# Altium footprint library cocube_maix.PcbLib: 23 footprints (part 2 of 2)
Each footprint in its own frame and in the unit in brackets; x right, y up, seen from the top. Pads: shape width x height; smd on the part's side, far side on the other; paste and mask are expansions set on the pad; w line width, h text height; cw(c..) or ccw(c..) is an arc to the next point about the centre after c.
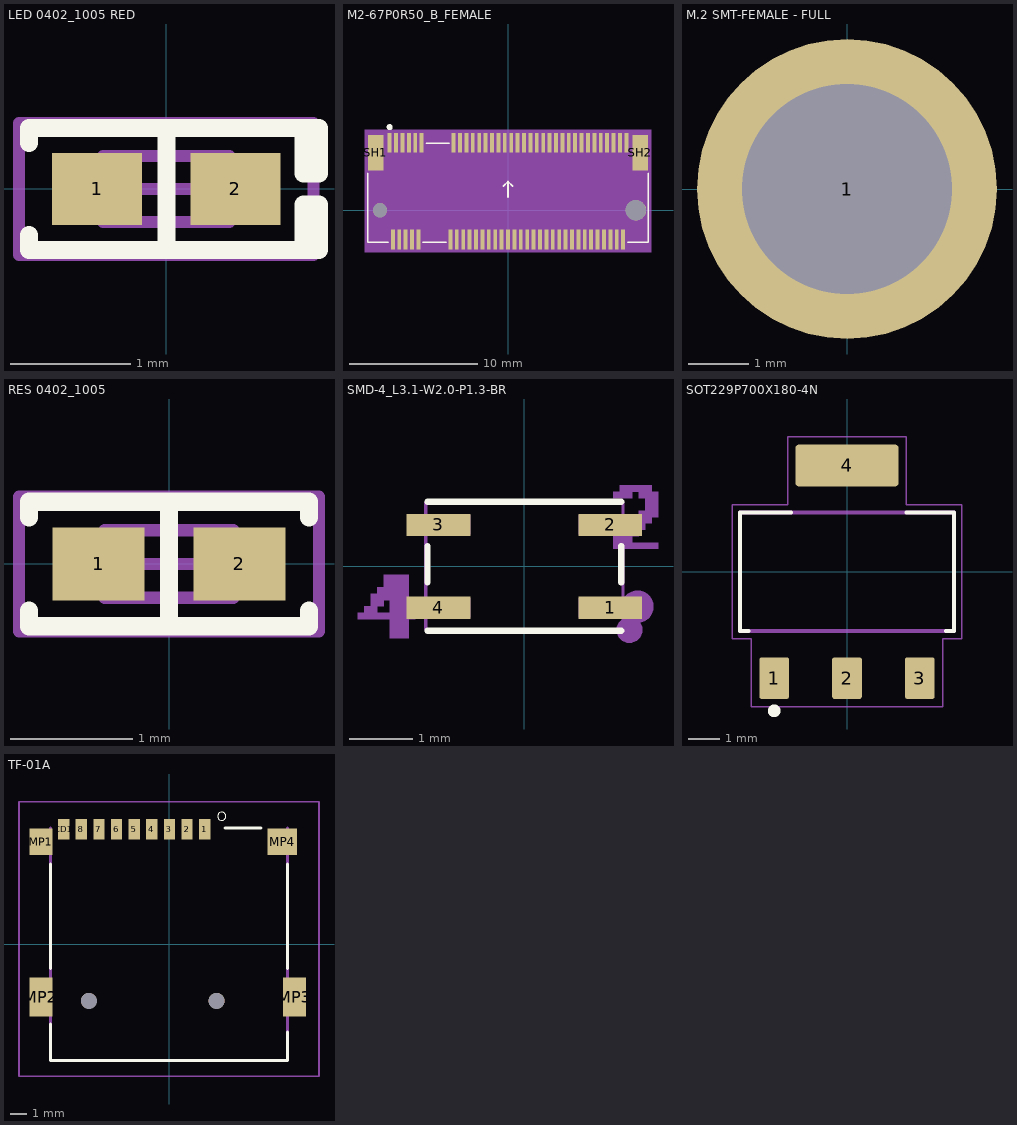
[diagram p1: the footprints below, top view; thin cyan lines are the x and y axes]

## LED 0402_1005 RED [mm]
pads (2):
  rect 0.75x0.6 smd: 1(-0.575,0) 2(0.575,0)
Top Overlay:
  lines w0.15: -1.143,-0.381 -1.143,-0.508 1.143,-0.508 ; -1.143,0.381 -1.143,0.508 1.143,0.508 ; 0,-0.508 0,0.508 ; 1.143,-0.508 1.143,-0.127 1.27,-0.127 1.27,-0.508 1.143,-0.508 ; 1.143,0.508 1.143,0.127 1.27,0.127 1.27,0.508 1.143,0.508
Top 3D Body (Mech13):
  lines w0.1: -0.525,-0.275 0.525,-0.275 0.525,0.275 -0.525,0.275 -0.525,-0.275
Mechanical 15:
  lines w0.1: -0.275,0 0.275,0 ; 0,-0.275 0,0.275 ; -1.225,-0.55 1.225,-0.55 1.225,0.55 -1.225,0.55 -1.225,-0.55
3D body "LED 0402 Base RED.STEP": height 0.1, standoff 0, extent -0.5,-0.25 0.5,0.25
3D body "LED 0402 Lens RED.STEP": height 0.21, standoff 0.08, extent -0.35,-0.25 0.35,0.25

## M2-67P0R50_B_FEMALE [mm]
pads (71):
  rect 0.3x1.55 smd mask+0.051: 1(-9.25,5.275) 2(-9,-2.275) 3(-8.75,5.275) 4(-8.5,-2.275) 5(-8.25,5.275) 6(-8,-2.275) 7(-7.75,5.275) 8(-7.5,-2.275) 9(-7.25,5.275) 10(-7,-2.275) 11(-6.75,5.275) 20(-4.5,-2.275) 21(-4.25,5.275) 22(-4,-2.275) 23(-3.75,5.275) 24(-3.5,-2.275) 25(-3.25,5.275) 26(-3,-2.275) 27(-2.75,5.275) 28(-2.5,-2.275) 29(-2.25,5.275) 30(-2,-2.275) 31(-1.75,5.275) 32(-1.5,-2.275) 33(-1.25,5.275) 34(-1,-2.275) 35(-0.75,5.275) 36(-0.5,-2.275) 37(-0.25,5.275) 38(0,-2.275) 39(0.25,5.275) 40(0.5,-2.275) 41(0.75,5.275) 42(1,-2.275) 43(1.25,5.275) 44(1.5,-2.275) 45(1.75,5.275) 46(2,-2.275) 47(2.25,5.275) 48(2.5,-2.275) 49(2.75,5.275) 50(3,-2.275) 51(3.25,5.275) 52(3.5,-2.275) 53(3.75,5.275) 54(4,-2.275) 55(4.25,5.275) 56(4.5,-2.275) 57(4.75,5.275) 58(5,-2.275) 59(5.25,5.275) 60(5.5,-2.275) 61(5.75,5.275) 62(6,-2.275) 63(6.25,5.275) 64(6.5,-2.275) 65(6.75,5.275) 66(7,-2.275) 67(7.25,5.275) 68(7.5,-2.275) 69(7.75,5.275) 70(8,-2.275) 71(8.25,5.275) 72(8.5,-2.275) 73(8.75,5.275) 74(9,-2.275) 75(9.25,5.275)
  round 1.1 hole 1.1 mask+0.051: " "(-10,0)
  round 1.6 / inner round 1.524 / far side round 1.6 hole 1.6 mask+0.051: " "(10,0)
  rect 1.2x2.75 smd mask+0.051: SH1(-10.35,4.5) SH2(10.35,4.5)
Top Overlay:
  circle w0.24: c-9.25,6.5 r0.12
  lines w0.125: -0.375,1.875 0,2.25 ; 0,1 0,2.25 ; 0.375,1.875 0,2.25
  lines w0.127: -10.95,2.9 -10.95,-2.5 -9.35,-2.5 ; -6.65,-2.5 -4.85,-2.5 ; -6.4,5.25 -4.6,5.25 ; 9.35,-2.5 10.95,-2.5 10.95,2.9
  text ".Designator" at -2.032,1.651 h0.89
Mechanical 8:
  text "38" at 0.73,-1.462 h0.51
  text "36" at 0.23,-1.462 h0.51
  text "28" at -1.77,-1.462 h0.51
  text "22" at -3.27,-1.462 h0.51
  text "20" at -3.77,-1.462 h0.51
  text "40" at 1.23,-1.462 h0.51
  text "21" at -3.52,6.088 h0.51
  text "23" at -3.02,6.088 h0.51
  text "25" at -2.52,6.088 h0.51
  text "27" at -2.02,6.088 h0.51
  text "44" at 2.23,-1.462 h0.51
  text "26" at -2.27,-1.462 h0.51
  text "24" at -2.77,-1.462 h0.51
  text "46" at 2.73,-1.462 h0.51
  text "74" at 9.73,-1.462 h0.51
  text "72" at 9.23,-1.462 h0.51
  text "34" at -0.27,-1.462 h0.51
  text "32" at -0.77,-1.462 h0.51
  text "75" at 9.98,6.088 h0.51
  text "73" at 9.48,6.088 h0.51
  text "4" at -8.27,-1.869 h0.51
  text "1" at -9.02,5.681 h0.51
  text "3" at -8.52,5.681 h0.51
  text "2" at -8.77,-1.869 h0.51
  text "69" at 8.48,6.088 h0.51
  text "71" at 8.98,6.088 h0.51
  text "56" at 5.23,-1.462 h0.51
  text "58" at 5.73,-1.462 h0.51
  text "70" at 8.73,-1.462 h0.51
  text "54" at 4.73,-1.462 h0.51
  text "48" at 3.23,-1.462 h0.51
  text "50" at 3.73,-1.462 h0.51
  text "62" at 6.73,-1.462 h0.51
  text "60" at 6.23,-1.462 h0.51
  text "66" at 7.73,-1.462 h0.51
  text "64" at 7.23,-1.462 h0.51
  text "52" at 4.23,-1.462 h0.51
  text "68" at 8.23,-1.462 h0.51
  text "53" at 4.48,6.088 h0.51
  text "55" at 4.98,6.088 h0.51
  text "59" at 5.98,6.088 h0.51
  text "57" at 5.48,6.088 h0.51
  text "63" at 6.98,6.088 h0.51
  text "61" at 6.48,6.088 h0.51
  text "65" at 7.48,6.088 h0.51
  text "67" at 7.98,6.088 h0.51
  text "41" at 1.48,6.088 h0.51
  text "43" at 1.98,6.088 h0.51
  text "45" at 2.48,6.088 h0.51
  text "47" at 2.98,6.088 h0.51
  text "29" at -1.52,6.088 h0.51
  text "42" at 1.73,-1.462 h0.51
  text "35" at -0.02,6.088 h0.51
  text "33" at -0.52,6.088 h0.51
  text "49" at 3.48,6.088 h0.51
  text "SH2" at 11.08,5.719 h0.51
  text "5" at -8.02,5.681 h0.51
  text "7" at -7.52,5.681 h0.51
  text "8" at -7.27,-1.869 h0.51
  text "6" at -7.77,-1.869 h0.51
  text "SH1" at -9.62,5.719 h0.51
  text "10" at -6.77,-1.462 h0.51
  text "30" at -1.27,-1.462 h0.51
  text "37" at 0.48,6.088 h0.51
  text "39" at 0.98,6.088 h0.51
  text "51" at 3.98,6.088 h0.51
  text "31" at -1.02,6.088 h0.51
  text "9" at -7.02,5.681 h0.51
  text "11" at -6.52,6.088 h0.51
Mechanical 9:
  drawing of 1702 lines, arcs and shapes, not listed
  text "NGFF-67P_B" at -1,0.75 h0.51
Mechanical 10:
  region: -11.2,6.3 -11.2,-3.3 11.2,-3.3 11.2,6.3
3D body "2377473_2199230-3.stp": height 4.09, standoff -0.61, extent -10.95,-2.85 10.95,5.85

## M.2 SMT-FEMALE - FULL [mm] "Connector; Plug"
pads (1):
  round 5 / inner round 4 / far side round 4 hole 3.5 paste+0 mask+0.051: 1(0,0)
3D body "M2-nut_smt.stp": height 2.46, standoff -1.04, extent -2.258,-2.239 2.242,2.261

## RES 0402_1005 [mm]
pads (2):
  rect 0.75x0.6 smd: 1(-0.575,0) 2(0.575,0)
Top Overlay:
  lines w0.15: -1.143,-0.381 -1.143,-0.508 1.143,-0.508 1.143,-0.381 ; -1.143,0.381 -1.143,0.508 1.143,0.508 1.143,0.381 ; 0,-0.508 0,0.508
Top 3D Body (Mech13):
  lines w0.1: -0.525,-0.275 -0.525,0.275 0.525,0.275 0.525,-0.275 -0.525,-0.275
Mechanical 15:
  lines w0.1: -0.275,0 0.275,0 ; 0,-0.275 0,0.275 ; -1.225,-0.55 -1.225,0.55 1.225,0.55 1.225,-0.55 -1.225,-0.55
3D body "0402 resistor.STEP": height 0.35, standoff 0, extent -0.5,-0.25 0.5,0.25

## SMD-4_L3.1-W2.0-P1.3-BR [mm]
pads (4):
  rect 1.001x0.351 smd mask+0.051: 1(1.351,-0.65) 2(1.351,0.65) 3(-1.351,0.65) 4(-1.351,-0.65)
Top Overlay:
  lines w0.099: -1.524,-1.016 1.524,-1.016 ; -1.524,-0.254 -1.524,0.32 ; -1.524,1.016 1.524,1.016 ; 1.524,-0.257 1.524,0.318
Mechanical 6:
  circle w0.254: c1.778,-0.635 r0.127
  region: -2.116,-1.13 -2.116,-1.029 -1.816,-1.029 -1.816,-1.13
  region: -2.116,-1.029 -2.116,-0.93 -1.816,-0.93 -1.816,-1.029
  region: -2.116,-0.93 -2.116,-0.831 -1.816,-0.831 -1.816,-0.93
  region: -2.616,-0.831 -2.616,-0.729 -1.714,-0.729 -1.714,-0.831
  region: -2.116,-0.729 -2.116,-0.63 -1.816,-0.63 -1.816,-0.729
  region: -2.515,-0.729 -2.515,-0.63 -2.314,-0.63 -2.314,-0.729
  region: -2.116,-0.63 -2.116,-0.531 -1.816,-0.531 -1.816,-0.63
  region: -2.416,-0.63 -2.416,-0.531 -2.215,-0.531 -2.215,-0.63
  region: -2.416,-0.531 -2.416,-0.429 -1.816,-0.429 -1.816,-0.531
  region: -2.314,-0.429 -2.314,-0.33 -1.816,-0.33 -1.816,-0.429
  region: -2.215,-0.33 -2.215,-0.229 -1.816,-0.229 -1.816,-0.33
  region: -2.215,-0.229 -2.215,-0.13 -1.816,-0.13 -1.816,-0.229
  region: 1.4,0.272 1.4,0.373 2.101,0.373 2.101,0.272
  region: 1.4,0.373 1.4,0.472 1.699,0.472 1.699,0.373
  region: 1.501,0.472 1.501,0.574 1.801,0.574 1.801,0.472
  region: 1.6,0.574 1.6,0.673 1.9,0.673 1.9,0.574
  region: 1.699,0.673 1.699,0.772 1.999,0.772 1.999,0.673
  region: 1.801,0.772 1.801,0.874 2.101,0.874 2.101,0.772
  region: 1.9,0.874 1.9,0.973 2.101,0.973 2.101,0.874
  region: 1.9,0.973 1.9,1.072 2.101,1.072 2.101,0.973
  region: 1.801,1.072 1.801,1.173 2.101,1.173 2.101,1.072
  region: 1.4,1.072 1.4,1.173 1.699,1.173 1.699,1.072
  region: 1.501,1.173 1.501,1.273 1.999,1.273 1.999,1.173
Mechanical 15:
  region: 1.852,-1.001 1.852,-0.961 1.821,-0.887 1.765,-0.831 1.691,-0.8 1.611,-0.8 1.537,-0.831 1.481,-0.887 1.45,-0.961 1.45,-1.001 1.45,-1.041 1.481,-1.114 1.537,-1.171 1.611,-1.201 1.691,-1.201 1.765,-1.171 1.821,-1.114 1.852,-1.041 1.852,-1.001
  region: 0.851,0.8 1.651,0.8 1.651,0.5 0.851,0.5
  region: 0.851,-0.5 1.651,-0.5 1.651,-0.8 0.851,-0.8
  region: -0.851,-0.8 -1.651,-0.8 -1.651,-0.5 -0.851,-0.5
  region: -0.851,0.5 -1.651,0.5 -1.651,0.8 -0.851,0.8
  lines w0.051: -1.549,-1.001 1.549,-1.001 1.549,1.001 -1.549,1.001 -1.549,-1.001

## SOT229P700X180-4N [mm]
pads (4):
  rrect15% 0.93x1.31 smd: 1(-2.29,-3.345) 2(0,-3.345) 3(2.29,-3.345)
  rrect15% 3.24x1.31 smd: 4(0,3.345)
Top Overlay:
  circle w0.2: c-2.29,-4.373 r0.1
  lines w0.127: -3.1,-1.86 -3.36,-1.86 -3.36,1.86 -1.76,1.86 ; 1.87,1.86 3.36,1.86 3.36,-1.86 3.11,-1.86
Top 3D Body (Mech13):
  lines w0.127: -3.36,-1.86 3.36,-1.86 3.36,1.86 -3.36,1.86 -3.36,-1.86
Mechanical 15:
  lines w0.05: -3.61,-2.11 -3.01,-2.11 -3.01,-4.25 3.01,-4.25 3.01,-2.11 3.61,-2.11 3.61,2.11 1.87,2.11 1.87,4.25 -1.87,4.25 -1.87,2.11 -3.61,2.11 -3.61,-2.11
3D body "step_temp.STEP": height 1.78, standoff -0.03, extent -3.251,-3.499 3.251,3.499

## TF-01A [mm]
pads (15):
  rect 0.7x1.3 smd: 1(2.23,7.174) 2(1.13,7.174) 3(0.03,7.174) 4(-1.07,7.174) 5(-2.17,7.174) 6(-3.27,7.174) 7(-4.37,7.174) 8(-5.47,7.174) CD1(-6.57,7.174)
  rect 1.448x1.651 smd: MP1(-7.989,6.4)
  rect 1.448x2.438 smd: MP2(-7.989,-3.3) MP3(7.836,-3.3)
  rect 1.854x1.651 smd: MP4(7.061,6.4)
  round 1 hole 1 unplated: ""(-5.004,-3.531) ""(2.972,-3.531)
Top Overlay:
  circle w0: c3.296,7.984 r0.254
  lines w0.203: -7.4,-5 -7.399,-7.25 7.399,-7.263 7.4,-5.5 ; -7.4,-1.5 -7.4,5 ; 3.5,7.25 5.738,7.25 ; 7.4,-1.5 7.4,5
Top 3D Body (Mech13):
  lines w0.1: -9.36,-8.25 9.36,-8.25 9.36,8.9 -9.36,8.9 -9.36,-8.25
  lines w0.2: -7.4,7.25 -7.4,-7.25 7.4,-7.25 7.4,7.25
3D body "step_temp.STEP": height 2, standoff -0.45, extent -8.066,-7.693 8.034,7.507